# Altium schematic symbol library Modules-GNSS.SchLib: 6 symbols
Pins are listed as number, name and electrical type; pins without a type are passive.

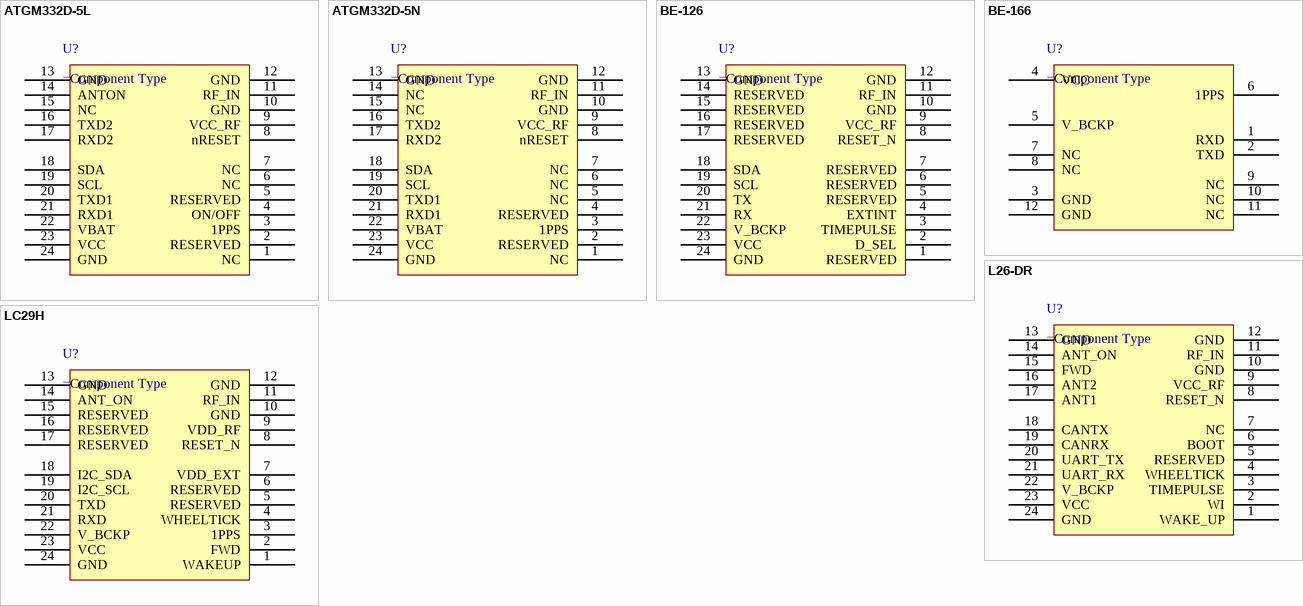
[diagram p0: symbols ATGM332D-5L to LC29H]

## ATGM332D-5L
designator U?
pins: 1 NC, 2 RESERVED, 3 1PPS, 4 ON/OFF, 5 RESERVED, 6 NC, 7 NC, 8 nRESET, 9 VCC_RF, 10 GND, 11 RF_IN, 12 GND, 13 GND, 14 ANTON, 15 NC, 16 TXD2, 17 RXD2, 18 SDA, 19 SCL, 20 TXD1, 21 RXD1, 22 VBAT, 23 VCC, 24 GND

## ATGM332D-5N
designator U?
pins: 1 NC, 2 RESERVED, 3 1PPS, 4 RESERVED, 5 NC, 6 NC, 7 NC, 8 nRESET, 9 VCC_RF, 10 GND, 11 RF_IN, 12 GND, 13 GND, 14 NC, 15 NC, 16 TXD2, 17 RXD2, 18 SDA, 19 SCL, 20 TXD1, 21 RXD1, 22 VBAT, 23 VCC, 24 GND

## BE-126
designator U?
pins: 1 RESERVED, 2 D_SEL, 3 TIMEPULSE, 4 EXTINT, 5 RESERVED, 6 RESERVED, 7 RESERVED, 8 RESET_N, 9 VCC_RF, 10 GND, 11 RF_IN, 12 GND, 13 GND, 14 RESERVED, 15 RESERVED, 16 RESERVED, 17 RESERVED, 18 SDA, 19 SCL, 20 TX, 21 RX, 22 V_BCKP, 23 VCC, 24 GND

## BE-166
designator U?
pins: 1 RXD, 2 TXD, 3 GND, 4 VCC, 5 V_BCKP, 6 1PPS, 7 NC, 8 NC, 9 NC, 10 NC, 11 NC, 12 GND

## L26-DR
designator U?
pins: 1 WAKE_UP, 2 WI, 3 TIMEPULSE, 4 WHEELTICK, 5 RESERVED, 6 BOOT, 7 NC, 8 RESET_N, 9 VCC_RF, 10 GND, 11 RF_IN, 12 GND, 13 GND, 14 ANT_ON, 15 FWD, 16 ANT2, 17 ANT1, 18 CANTX, 19 CANRX, 20 UART_TX, 21 UART_RX, 22 V_BCKP, 23 VCC, 24 GND

## LC29H
designator U?
pins: 1 WAKEUP, 2 FWD, 3 1PPS, 4 WHEELTICK, 5 RESERVED, 6 RESERVED, 7 VDD_EXT, 8 RESET_N, 9 VDD_RF, 10 GND, 11 RF_IN, 12 GND, 13 GND, 14 ANT_ON, 15 RESERVED, 16 RESERVED, 17 RESERVED, 18 I2C_SDA, 19 I2C_SCL, 20 TXD, 21 RXD, 22 V_BCKP, 23 VCC, 24 GND